# EAGLE library part UNOSHIELD (library Jordan Boards)
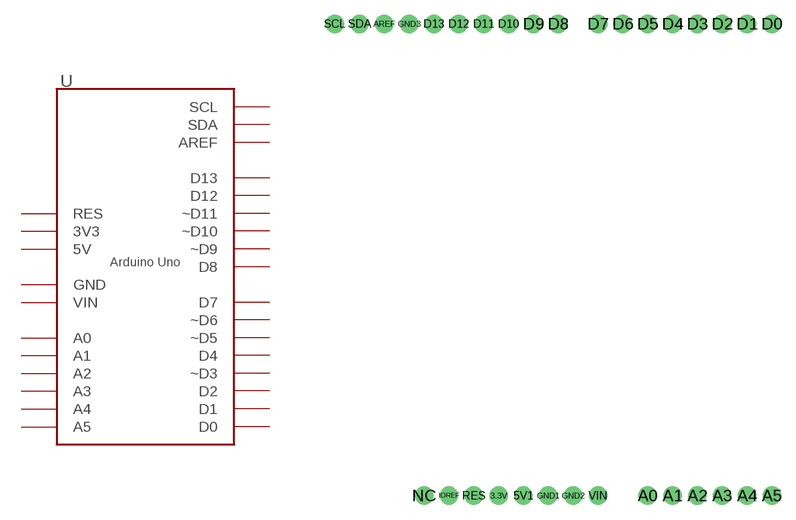
[diagram p4: symbol with the pads of ARDUINOSHIELDR3; footprint ARDUINOSHIELDR3]

Designator prefix -

## UNOSHIELD  [ARDUINOSHIELDR3]
3.3V  3V3
5V1  5V
A0  A0
A1  A1
A2  A2
A3  A3
A4  A4
A5  A5
AREF  AREF
D0  D0
D1  D1
D2  D2
D3  ~D3
D4  D4
D5  ~D5
D6  ~D6
D7  D7
D8  D8
D9  ~D9
D10  ~D10
D11  ~D11
D12  D12
D13  D13
GND1  GND
GND2  GND
GND3  GND
RES  RES
SCL  SCL
SDA  SDA
VIN  VIN

## Footprint ARDUINOSHIELDR3 (pad centres in mm)
drill 1.016 pad 1.88: 3.3V 30.48,0; 5V1 33.02,0; A0 45.72,0; A1 48.26,0; A2 50.8,0; A3 53.34,0; A4 55.88,0; A5 58.42,0; AREF 18.796,48.26; D0 58.42,48.26; D1 55.88,48.26; D2 53.34,48.26; D3 50.8,48.26; D4 48.26,48.26; D5 45.72,48.26; D6 43.18,48.26; D7 40.64,48.26; D8 36.576,48.26; D9 34.036,48.26; D10 31.496,48.26; D11 28.956,48.26; D12 26.416,48.26; D13 23.876,48.26; GND1 35.56,0; GND2 38.1,0; GND3 21.336,48.26; IOREF 25.4,0; NC 22.86,0; RES 27.94,0; SCL 13.716,48.26; SDA 16.256,48.26; VIN 40.64,0